# EAGLE library part LT1129CS8-3.3#PBF (library LT1129CS8-3.3#PBF)
Linear Technology LT1129CS8-3.3#PBF, LDO Voltage Regulator, 700mA, 3.3 V, -30 30 Vin, 8-Pin Source: Datasheet <http://cds.linear.com/docs/en/datasheet/112935ff.pdf>
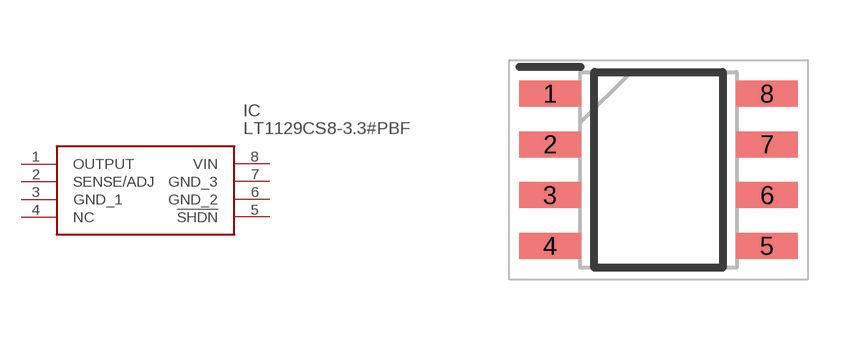
[diagram p0: symbol with the pads of SOIC127P599X175-8N; footprint SOIC127P599X175-8N]

Designator prefix IC

## LT1129CS8-3.3#PBF (Arrow_Part_Number: LT1129CS8-3.3#PBF; Arrow_Price-Stock: https://www.arrow.com/en/products/lt1129cs8-3.3pbf/analog-devices?region=nac; Description: Linear Technology LT1129CS8-3.3#PBF, LDO Voltage Regulator, 700mA, 3.3 V, -30 30 Vin, 8-Pin; Height: 1.752mm; Manufacturer_Name: Analog Devices; Manufacturer_Part_Number: LT1129CS8-3.3#PBF; Mouser_Part_Number: 584-LT1129CS8-3.3PBF; Mouser_Price-Stock: https://www.mouser.co.uk/ProductDetail/Analog-Devices/LT1129CS8-3.3PBF?qs=ytflclh7QUUPxIiRT3KdTw%3D%3D)  [SOIC127P599X175-8N]
1  OUTPUT
2  SENSE/ADJ
3  GND_1
4  NC  nc
5  !SHDN
6  GND_2
7  GND_3
8  VIN

## Footprint SOIC127P599X175-8N (pad centres in mm)
S8-ren3
smd 1.526 x 0.65: 1 -2.712,1.905; 2 -2.712,0.635; 3 -2.712,-0.635; 4 -2.712,-1.905; 5 2.712,-1.905; 6 2.712,-0.635; 7 2.712,0.635; 8 2.712,1.905